# Altium schematic symbol library 043045-0827.SchLib: 1 symbol
Pins are listed as number, name and electrical type; pins without a type are passive.

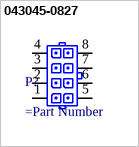
[diagram p0: symbol 043045-0827]

## 043045-0827
designator P?
=Description
pins: 1, 2, 3, 4, 5, 6, 7, 8